# Altium integrated library ALTIUM-WE-UOST-rev16a.IntLib: 8 symbols
Pins are listed as number, name and electrical type; pins without a type are passive.

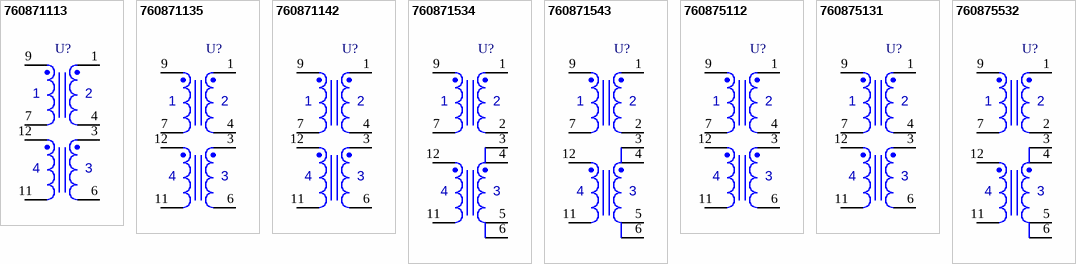
[diagram p0: symbols 760871113 to 760875532]

## 760871113
designator U?
WE-UOST Universal Offline Standard Transformers, size EE16/8/5, 1310 uH , 140:6:6:16 , 12.5 W; PartNumber: 760871113; Inductance: 1310 uH; OutputPower: 12.5 W; PublishedDate: Nov. 2016; Publisher: Wurth Elektronik; ComponentLink1Description: Manufacturer; ComponentLink1URL: http://www.we-online.de; ComponentLink2Description: Datasheet; ComponentLink2URL: http://katalog.we-online.de/pbs/datasheet/760871113.pdf; Size: EE16/8/5; TurnsRatio: 140:6:6:16
footprint WE-UOST_EE16/8/5 (SMD Transformer, body 25.81x16.6mm)
pins: 1, 3, 4, 6, 7, 9, 11, 12
text: 2

## 760871135
designator U?
WE-UOST Universal Offline Standard Transformers, size EE16/8/5, 1250 uH , 136:13:13:15 , 13.2 W; PartNumber: 760871135; Inductance: 1250 uH; OutputPower: 13.2 W; PublishedDate: Nov. 2016; Publisher: Wurth Elektronik; ComponentLink1Description: Manufacturer; ComponentLink1URL: http://www.we-online.de; ComponentLink2Description: Datasheet; ComponentLink2URL: http://katalog.we-online.de/pbs/datasheet/760871135.pdf; Size: EE16/8/5; TurnsRatio: 136:13:13:15
footprint WE-UOST_EE16/8/5
pins: 1, 3, 4, 6, 7, 9, 11, 12
text: 2

## 760871142
designator U?
WE-UOST Universal Offline Standard Transformers, size EE16/8/5, 1250 uH , 140:27:27:16 , 13.44 W; PartNumber: 760871142; Inductance: 1250 uH; OutputPower: 13.44 W; PublishedDate: Nov. 2016; Publisher: Wurth Elektronik; ComponentLink1Description: Manufacturer; ComponentLink1URL: http://www.we-online.de; ComponentLink2Description: Datasheet; ComponentLink2URL: http://katalog.we-online.de/pbs/datasheet/760871142.pdf; Size: EE16/8/5; TurnsRatio: 140:27:27:16
footprint WE-UOST_EE16/8/5
pins: 1, 3, 4, 6, 7, 9, 11, 12
text: 2

## 760871534
designator U?
WE-UOST Universal Offline Standard Transformers, size EE16/8/5, 1250 uH , 140:9:7:18 , 12.85 W; PartNumber: 760871534; Inductance: 1250 uH; OutputPower: 12.85 W; PublishedDate: Nov. 2016; Publisher: Wurth Elektronik; ComponentLink1Description: Manufacturer; ComponentLink1URL: http://www.we-online.de; ComponentLink2Description: Datasheet; ComponentLink2URL: http://katalog.we-online.de/pbs/datasheet/760871534.pdf; Size: EE16/8/5; TurnsRatio: 140:9:7:18
footprint WE-UOST_EE16/8/5
pins: 1, 2, 3, 4, 5, 6, 7, 9, 11, 12

## 760871543
designator U?
WE-UOST Universal Offline Standard Transformers, size EE16/8/5, 1310 uH , 140:22:6:16 , 12.95 W; PartNumber: 760871543; Inductance: 1310 uH; OutputPower: 12.95 W; PublishedDate: Nov. 2016; Publisher: Wurth Elektronik; ComponentLink1Description: Manufacturer; ComponentLink1URL: http://www.we-online.de; ComponentLink2Description: Datasheet; ComponentLink2URL: http://katalog.we-online.de/pbs/datasheet/760871543.pdf; Size: EE16/8/5; TurnsRatio: 140:22:6:16
footprint WE-UOST_EE16/8/5
pins: 1, 2, 3, 4, 5, 6, 7, 9, 11, 12

## 760875112
designator U?
WE-UOST Universal Offline Standard Transformers, size EE16/8/5, 1500 uH , 160:7:7:18 , 15 W; PartNumber: 760875112; Inductance: 1500 uH; OutputPower: 15 W; PublishedDate: Nov. 2016; Publisher: Wurth Elektronik; ComponentLink1Description: Manufacturer; ComponentLink1URL: http://www.we-online.de; ComponentLink2Description: Datasheet; ComponentLink2URL: http://katalog.we-online.de/pbs/datasheet/760875112.pdf; Size: EE16/8/5; TurnsRatio: 160:7:7:18
footprint WE-UOST_EE16/8/5
pins: 1, 3, 4, 6, 7, 9, 11, 12
text: 2

## 760875131
designator U?
WE-UOST Universal Offline Standard Transformers, size EE16/8/5, 1500 uH , 160:14:14:16 , 15.6 W; PartNumber: 760875131; Inductance: 1500 uH; OutputPower: 15.6 W; PublishedDate: Nov. 2016; Publisher: Wurth Elektronik; ComponentLink1Description: Manufacturer; ComponentLink1URL: http://www.we-online.de; ComponentLink2Description: Datasheet; ComponentLink2URL: http://katalog.we-online.de/pbs/datasheet/760875131.pdf; Size: EE16/8/5; TurnsRatio: 160:14:14:16
footprint WE-UOST_EE16/8/5
pins: 1, 3, 4, 6, 7, 9, 11, 12
text: 2

## 760875532
designator U?
WE-UOST Universal Offline Standard Transformers, size EE16/8/5, 1500 uH , 160:10:7:16 , 15.2 W; PartNumber: 760875532; Inductance: 1500 uH; OutputPower: 15.2 W; PublishedDate: Nov. 2016; Publisher: Wurth Elektronik; ComponentLink1Description: Manufacturer; ComponentLink1URL: http://www.we-online.de; ComponentLink2Description: Datasheet; ComponentLink2URL: http://katalog.we-online.de/pbs/datasheet/760875532.pdf; Size: EE16/8/5; TurnsRatio: 160:10:7:16
footprint WE-UOST_EE16/8/5
pins: 1, 2, 3, 4, 5, 6, 7, 9, 11, 12